# Altium footprint library PEPLLIB.PcbLib: 78 footprints (part 1 of 5)
Each footprint in its own frame and in the unit in brackets; x right, y up, seen from the top. Pads: shape width x height; smd on the part's side, far side on the other; paste and mask are expansions set on the pad; w line width, h text height; cw(c..) or ccw(c..) is an arc to the next point about the centre after c.
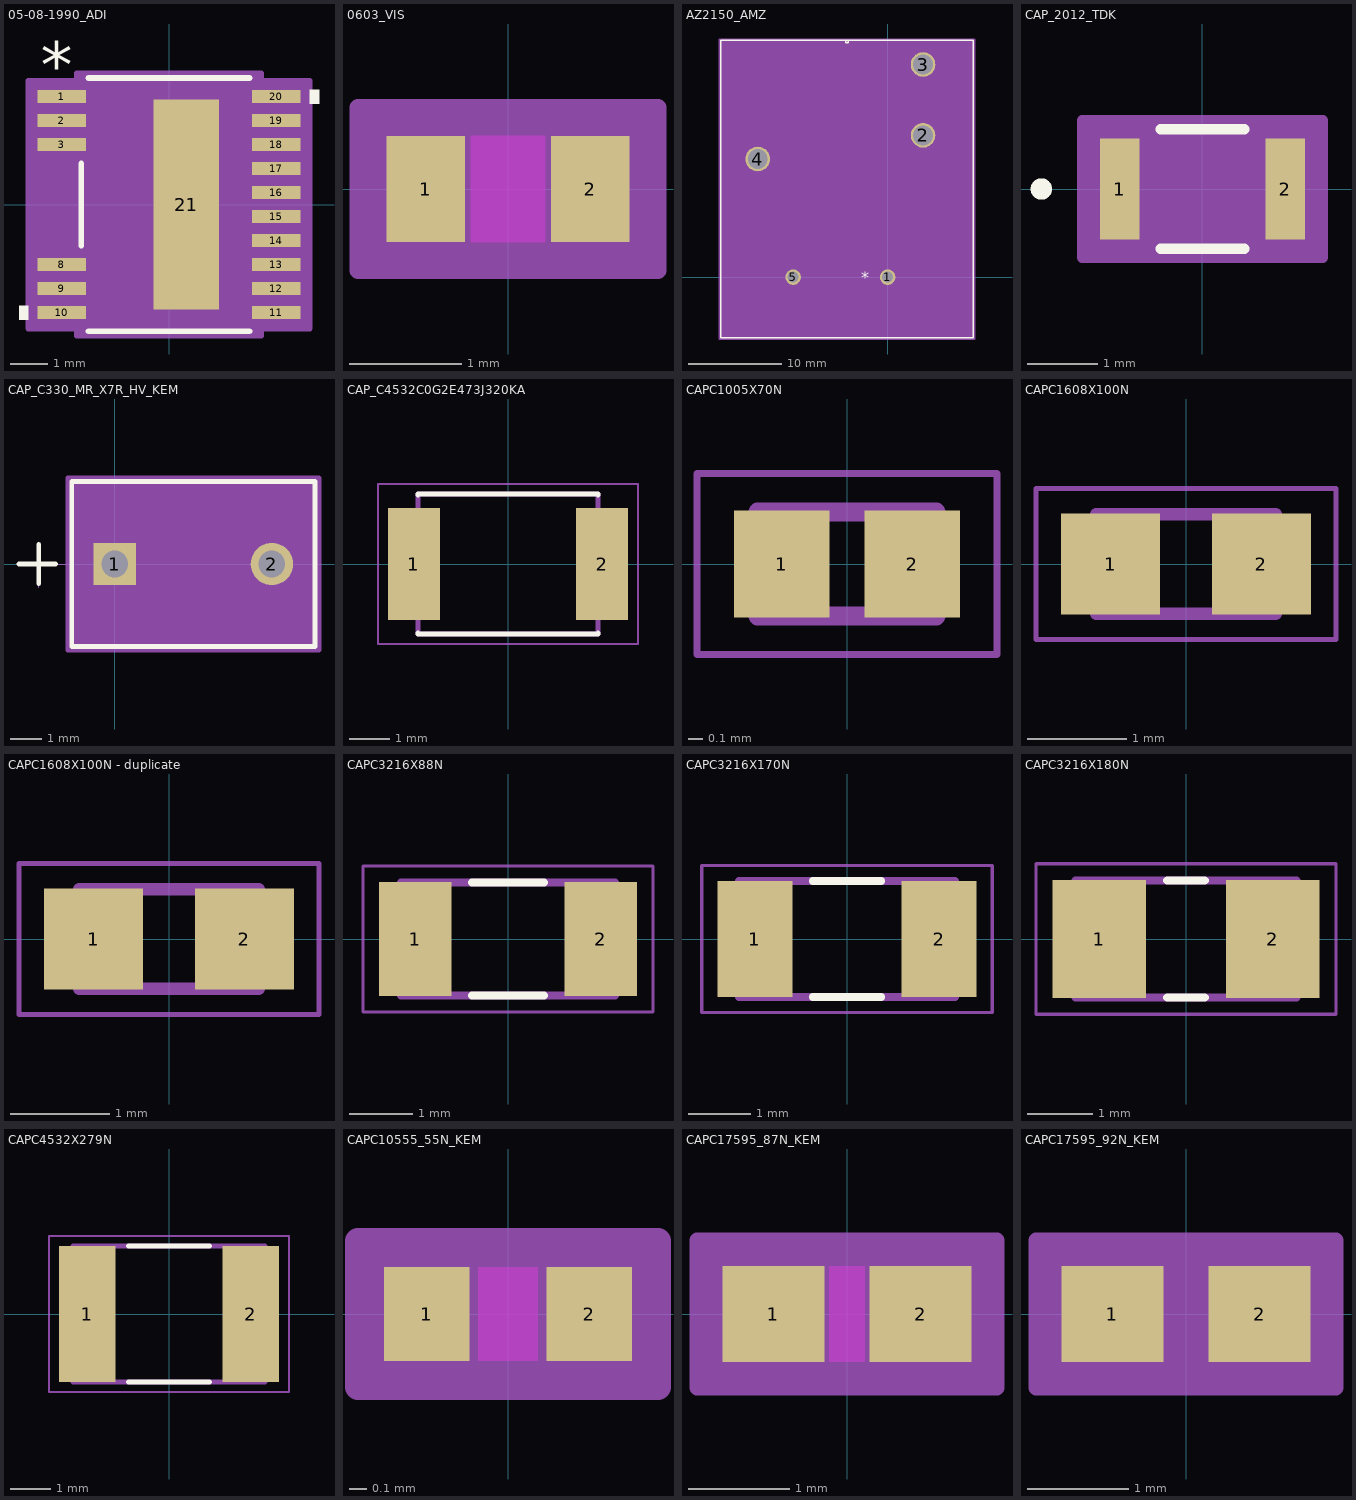
[diagram p0: the footprints below, top view; thin cyan lines are the x and y axes]

## 05-08-1990_ADI [mil]
pads (17):
  rect 51.5x14 smd paste+0 mask+0: 1(-114.25,115.16) 2(-114.25,89.57) 3(-114.25,63.98) 8(-114.25,-63.98) 9(-114.25,-89.57) 10(-114.25,-115.16) 11(114.25,-115.16) 12(114.25,-89.57) 13(114.25,-63.98) 14(114.25,-38.39) 15(114.25,-12.8) 16(114.25,12.8) 17(114.25,38.39) 18(114.25,63.98) 19(114.25,89.57) 20(114.25,115.16)
  rect 70x224 smd paste+0 mask+0: 21(18.5,0)
Top Overlay:
  region: 150,122.66 160,122.66 160,107.66 150,107.66
  region: -150,-107.66 -160,-107.66 -160,-122.66 -150,-122.66
  lines w6: -93.5,-43.88 -93.5,43.88 ; -85.92,-135 85.92,-135 ; -85.92,135 85.92,135
  text "*" at -136.75,124.16 h50
Mechanical 13:
  lines w0: -12,130 ccw(c0,130) 12,130
  lines w1: -126,-121.16 -88.5,-121.16 -88.5,-109.16 -126,-109.16 -126,-121.16 ; -126,-95.57 -88.5,-95.57 -88.5,-83.57 -126,-83.57 -126,-95.57 ; -126,-69.98 -88.5,-69.98 -88.5,-57.98 -126,-57.98 -126,-69.98 ; -126,57.98 -88.5,57.98 -88.5,69.98 -126,69.98 -126,57.98 ; -126,83.57 -88.5,83.57 -88.5,95.57 -126,95.57 -126,83.57 ; -126,109.16 -88.5,109.16 -88.5,121.16 -126,121.16 -126,109.16 ; -88.5,-130 -88.5,130 88.5,130 88.5,-130 -88.5,-130 ; 88.5,-121.16 126,-121.16 126,-109.16 88.5,-109.16 88.5,-121.16 ; 88.5,-95.57 126,-95.57 126,-83.57 88.5,-83.57 88.5,-95.57 ; 88.5,-69.98 126,-69.98 126,-57.98 88.5,-57.98 88.5,-69.98 ; 88.5,-44.39 126,-44.39 126,-32.39 88.5,-32.39 88.5,-44.39 ; 88.5,-18.8 126,-18.8 126,-6.8 88.5,-6.8 88.5,-18.8 ; 88.5,6.8 126,6.8 126,18.8 88.5,18.8 88.5,6.8 ; 88.5,32.39 126,32.39 126,44.39 88.5,44.39 88.5,32.39 ; 88.5,57.98 126,57.98 126,69.98 88.5,69.98 88.5,57.98 ; 88.5,83.57 126,83.57 126,95.57 88.5,95.57 88.5,83.57 ; 88.5,109.16 126,109.16 126,121.16 88.5,121.16 88.5,109.16
  text "*" at -86,77 h50
Mechanical 15:
  region: -98.5,-132.16 -150,-132.16 -150,132.16 -98.5,132.16 -98.5,140 98.5,140 98.5,132.16 150,132.16 150,-132.16 98.5,-132.16 98.5,-140 -98.5,-140
  lines w6: -150,-132.16 -98.5,-132.16 -98.5,-140 98.5,-140 98.5,-132.16 150,-132.16 150,132.16 98.5,132.16 98.5,140 -98.5,140 -98.5,132.16 -150,132.16 -150,-132.16
3D body "05-08-1990_ADI.step": height 47.09, standoff 0, extent -125.98,-130 125.98,130

## 0603_VIS [mm]
pads (2):
  rect 0.703x0.95 smd paste+0 mask+0: 1(-0.737,0) 2(0.737,0)
Top Layer keep-out:
  region: -0.334,-0.424 -0.334,0.424 0.334,0.424 0.334,-0.424
Keep-Out Layer:
  region: -0.334,-0.475 -0.334,0.475 0.334,0.475 0.334,-0.475
Mechanical 13:
  lines w0.025: -0.885,-0.475 -0.885,0.475 ; -0.885,-0.475 -0.385,-0.475 -0.385,0.475 -0.885,0.475 ; -0.885,-0.475 0.885,-0.475 ; -0.885,-0.475 -0.885,0.475 ; -0.885,0.475 0.885,0.475 ; 0.885,-0.475 0.385,-0.475 0.385,0.475 0.885,0.475 ; 0.885,-0.475 0.885,0.475 ; 0.885,-0.475 0.885,0.475
Mechanical 15:
  region: 1.342,-0.729 -1.342,-0.729 -1.342,0.729 1.342,0.729
  lines w0.152: -1.342,-0.729 -1.342,0.729 1.342,0.729 1.342,-0.729 -1.342,-0.729
3D body "0603_VIS.step": height 0.84, standoff 0, extent -0.885,-0.475 0.885,0.475

## AZ2150_AMZ [mil]
pads (5):
  round 66 / inner round 60 / far side round 66 hole 46 paste-99999 mask+0: 1(0,0) 5(-400,0)
  round 104 / inner round 60 / far side round 104 hole 84 paste-99999 mask+0: 2(150,600) 3(150,900) 4(-550,500)
Top Overlay:
  lines w6: -707,-257 -707,1003 363,1003 363,-257 -707,-257 ; -177,993 -177,1003 -167,1003 -167,993 -177,993
  text "*" at -112.5,-25 h50
Mechanical 13:
  lines w1: -702,-252 -702,998 358,998 358,-252 -702,-252
  text "*" at -112.5,-25 h50
Mechanical 15:
  region: 368,-262 368,1008 -712,1008 -712,-262
  lines w6: -712,-262 368,-262 368,1008 -712,1008 -712,-262

## CAP_2012_TDK [mil]
pads (2):
  rect 22x57 smd paste+0 mask+0: 1(-46.5,0) 2(46.5,0)
Top Overlay:
  circle w6: c-90.5,0 r3
  lines w6: -23.39,-33.5 23.39,-33.5 ; -23.39,33.5 23.39,33.5
Mechanical 13:
  circle w0: c-41.5,0 r3
  lines w1: -43.5,-28.5 -43.5,28.5 ; -43.5,-28.5 43.5,-28.5 ; -43.5,-28.5 -35.5,-28.5 -35.5,28.5 -43.5,28.5 ; -43.5,-28.5 -43.5,28.5 ; -43.5,28.5 43.5,28.5 ; 43.5,-28.5 43.5,28.5 ; 43.5,-28.5 43.5,28.5 ; 43.5,-28.5 35.5,-28.5 35.5,28.5 43.5,28.5
Mechanical 15:
  region: 67.5,-38.5 -67.5,-38.5 -67.5,38.5 67.5,38.5
  lines w6: -67.5,-38.5 67.5,-38.5 67.5,38.5 -67.5,38.5 -67.5,-38.5
3D body "CAP_2012_TDK.step": height 49.02, standoff 0, extent -43.5,-28.5 43.5,28.5

## CAP_C330_MR_X7R_HV_KEM [mil]
pads (2):
  rect 54x54 / inner round 60 / far side rect 54x54 hole 34 paste-99999 mask+0: 1(0,0)
  round 54 / inner round 60 / far side round 54 hole 34 paste-99999 mask+0: 2(200,0)
Top Overlay:
  lines w6: -122,0 -75.1,0 ; -97,-25 -97,25 ; -55,-105 -55,105 255,105 255,-105 -55,-105
Mechanical 13:
  lines w1: -102,0 -52,0 ; -97,-30 -97,20 ; -50,-100 -50,100 250,100 250,-100 -50,-100
Mechanical 15:
  region: 260,-110 -60,-110 -60,110 260,110
  region: 250,-100 -50,-100 -50,100 250,100
  region: 250,-37 260,-37 260,37 250,37
  region: -50,-37 -60,-37 -60,37 -50,37
  lines w6: -60,-37 -60,-110 260,-110 260,-37 260,37 260,110 -60,110 -60,37 ; -60,-35 -60,39

## CAP_C4532C0G2E473J320KA [mm]
height 3.5
pads (2):
  rect 1.3x2.8 smd: 1(-2.35,0) 2(2.35,0)
Top Overlay:
  lines w0.127: -2.25,-1.72 -2.25,-1.75 2.25,-1.75 2.25,-1.72 ; -2.25,1.72 -2.25,1.75 2.25,1.75 2.25,1.72
Mechanical 13:
  lines w0.127: -2.25,-1.75 2.25,-1.75 2.25,1.75 -2.25,1.75 -2.25,-1.75
Mechanical 15:
  lines w0.05: -3.25,-2 3.25,-2 3.25,2 -3.25,2 -3.25,-2

## CAPC1005X70N [mm]
pads (2):
  rect 0.64x0.72 smd: 1(-0.439,0) 2(0.439,0)
Mechanical 13:
  lines w0.127: -0.6,-0.35 0.6,-0.35 0.6,0.35 -0.6,0.35 -0.6,-0.35
Mechanical 15:
  lines w0.05: -1.008,-0.608 1.008,-0.608 1.008,0.608 -1.008,0.608 -1.008,-0.608

## CAPC1608X100N [mm]
pads (2):
  rect 1x1.02 smd: 1(-0.759,0) 2(0.759,0)
Mechanical 13:
  lines w0.127: -0.9,-0.5 -0.9,0.5 0.9,0.5 0.9,-0.5 -0.9,-0.5
Mechanical 15:
  lines w0.05: -1.508,-0.758 -1.508,0.758 1.508,0.758 1.508,-0.758 -1.508,-0.758
3D body "step_temp.STEP": height 1, standoff 0, extent -0.8,-0.4 0.8,0.4

## CAPC1608X100N - duplicate [mm]
pads (2):
  rect 1x1.02 smd: 1(-0.759,0) 2(0.759,0)
Mechanical 13:
  lines w0.127: -0.9,-0.5 0.9,-0.5 0.9,0.5 -0.9,0.5 -0.9,-0.5
Mechanical 15:
  lines w0.05: -1.508,-0.758 1.508,-0.758 1.508,0.758 -1.508,0.758 -1.508,-0.758
3D body "step_temp.STEP": height 1, standoff 0, extent -0.8,-0.4 0.8,0.4

## CAPC3216X88N [mm]
pads (2):
  rect 1.16x1.82 smd: 1(-1.475,0) 2(1.475,0)
Top Overlay:
  lines w0.127: -0.57,-0.9 0.57,-0.9 ; -0.57,0.9 0.57,0.9
Mechanical 13:
  lines w0.127: -1.7,-0.9 -1.7,0.9 1.7,0.9 1.7,-0.9 -1.7,-0.9
Mechanical 15:
  lines w0.05: -2.308,-1.158 -2.308,1.158 2.308,1.158 2.308,-1.158 -2.308,-1.158
3D body "step_temp.STEP": height 0.88, standoff 0, extent -1.6,-0.8 1.6,0.8

## CAPC3216X170N [mm]
pads (2):
  rect 1.21x1.86 smd: 1(-1.477,0) 2(1.477,0)
Top Overlay:
  lines w0.127: -0.55,-0.93 0.55,-0.93 ; -0.55,0.93 0.55,0.93
Mechanical 13:
  lines w0.127: -1.73,-0.93 1.73,-0.93 1.73,0.93 -1.73,0.93 -1.73,-0.93
Mechanical 15:
  lines w0.05: -2.331,-1.181 2.331,-1.181 2.331,1.181 -2.331,1.181 -2.331,-1.181

## CAPC3216X180N [mm]
pads (2):
  rect 1.44x1.82 smd: 1(-1.336,0) 2(1.336,0)
Top Overlay:
  lines w0.127: -0.29,-0.9 0.29,-0.9 ; -0.29,0.9 0.29,0.9
Mechanical 13:
  lines w0.127: -1.7,-0.9 -1.7,0.9 1.7,0.9 1.7,-0.9 -1.7,-0.9
Mechanical 15:
  lines w0.05: -2.308,-1.158 -2.308,1.158 2.308,1.158 2.308,-1.158 -2.308,-1.158
3D body "step_temp.STEP": height 1.8, standoff 0, extent -1.6,-0.8 1.6,0.8

## CAPC4532X279N [mm]
pads (2):
  rect 1.41x3.42 smd: 1(-2.049,0) 2(2.049,0)
Top Overlay:
  lines w0.127: -1.02,-1.7 1.02,-1.7 ; -1.02,1.7 1.02,1.7
Mechanical 13:
  lines w0.127: -2.4,-1.7 2.4,-1.7 2.4,1.7 -2.4,1.7 -2.4,-1.7
Mechanical 15:
  lines w0.05: -3.005,-1.958 3.005,-1.958 3.005,1.958 -3.005,1.958 -3.005,-1.958
3D body "step_temp.STEP": height 2.79, standoff 0, extent -2.25,-1.6 2.25,1.6

## CAPC10555_55N_KEM [mm]
pads (2):
  rect 0.503x0.55 smd paste+0 mask+0: 1(-0.477,0) 2(0.477,0)
Top Layer keep-out:
  region: -0.174,-0.224 -0.174,0.224 0.174,0.224 0.174,-0.224
Keep-Out Layer:
  region: -0.174,-0.275 -0.174,0.275 0.174,0.275 0.174,-0.275
Mechanical 13:
  lines w0.025: -0.525,-0.275 -0.525,0.275 ; -0.525,-0.275 -0.275,-0.275 -0.275,0.275 -0.525,0.275 ; -0.525,-0.275 0.525,-0.275 ; -0.525,-0.275 -0.525,0.275 ; -0.525,0.275 0.525,0.275 ; 0.525,-0.275 0.275,-0.275 0.275,0.275 0.525,0.275 ; 0.525,-0.275 0.525,0.275 ; 0.525,-0.275 0.525,0.275
Mechanical 15:
  region: 0.881,-0.427 -0.881,-0.427 -0.881,0.427 0.881,0.427
  lines w0.152: -0.881,-0.427 -0.881,0.427 0.881,0.427 0.881,-0.427 -0.881,-0.427
3D body "CAPC10555_55N_KEM.step": height 0.55, standoff 0, extent -0.525,-0.275 0.525,0.275

## CAPC17595_87N_KEM [mm]
pads (2):
  rect 1.006x0.95 smd paste+0 mask+0: 1(-0.728,0) 2(0.728,0)
Top Layer keep-out:
  region: -0.174,-0.424 -0.174,0.424 0.174,0.424 0.174,-0.424
Keep-Out Layer:
  region: -0.174,-0.475 -0.174,0.475 0.174,0.475 0.174,-0.475
Mechanical 13:
  lines w0.025: -0.875,-0.475 -0.875,0.475 ; -0.875,-0.475 -0.375,-0.475 -0.375,0.475 -0.875,0.475 ; -0.875,-0.475 0.875,-0.475 ; -0.875,-0.475 -0.875,0.475 ; -0.875,0.475 0.875,0.475 ; 0.875,-0.475 0.375,-0.475 0.375,0.475 0.875,0.475 ; 0.875,-0.475 0.875,0.475 ; 0.875,-0.475 0.875,0.475
Mechanical 15:
  region: 1.485,-0.729 -1.485,-0.729 -1.485,0.729 1.485,0.729
  lines w0.152: -1.485,-0.729 -1.485,0.729 1.485,0.729 1.485,-0.729 -1.485,-0.729
3D body "CAPC17595_87N_KEM.step": height 0.87, standoff 0, extent -0.875,-0.475 0.875,0.475

## CAPC17595_92N_KEM [mm]
pads (2):
  rect 1.006x0.95 smd paste+0 mask+0: 1(-0.728,0) 2(0.728,0)
Mechanical 13:
  lines w0.025: -0.875,-0.475 -0.875,0.475 ; -0.875,-0.475 -0.375,-0.475 -0.375,0.475 -0.875,0.475 ; -0.875,-0.475 0.875,-0.475 ; -0.875,-0.475 -0.875,0.475 ; -0.875,0.475 0.875,0.475 ; 0.875,-0.475 0.375,-0.475 0.375,0.475 0.875,0.475 ; 0.875,-0.475 0.875,0.475 ; 0.875,-0.475 0.875,0.475
Mechanical 15:
  region: 1.485,-0.729 -1.485,-0.729 -1.485,0.729 1.485,0.729
  lines w0.152: -1.485,-0.729 -1.485,0.729 1.485,0.729 1.485,-0.729 -1.485,-0.729
3D body "CAPC17595_92N_KEM.step": height 0.92, standoff 0, extent -0.875,-0.475 0.875,0.475